# EAGLE library part TRANSFORMER (library bens)
Small Power Transformer Tamura SB2812-1218 Maximum Power: 1.2VA Primary Voltage and Frequency: 120VAC, 60Hz Secondary Voltage Parallel Connection: 9.0V, 130mA Series Connection: 18.0V, 65mA
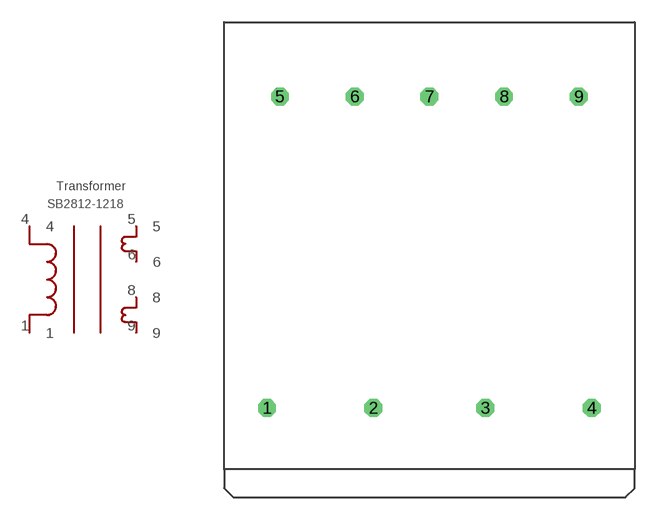
[diagram p1: symbol with the pads of TRANSFORMER; footprint TRANSFORMER]

Designator prefix -

## TRANSFORMER  [TRANSFORMER]
1  1  in
4  4  in
5  5  in
6  6  in
8  8  in
9  9  in

## Footprint TRANSFORMER (pad centres in mm)
Small Power Transformer Tamura Corporation of America SB2812-1218 CHINA
drill 0.7 octagon: 1 -5.969,-11.049; 2 1.27,-11.049; 3 8.89,-11.049; 4 16.129,-11.049; 5 -5.08,10.16; 6 0,10.16; 7 5.08,10.16; 8 10.16,10.16; 9 15.24,10.16